# Altium footprint library PCB - POTENTIOMETER - POT BOURNS TRIMPOT 3224J.PCBLIB: 1 footprints
Each footprint in its own frame and in the unit in brackets; x right, y up, seen from the top. Pads: shape width x height; smd on the part's side, far side on the other; paste and mask are expansions set on the pad; w line width, h text height; cw(c..) or ccw(c..) is an arc to the next point about the centre after c.
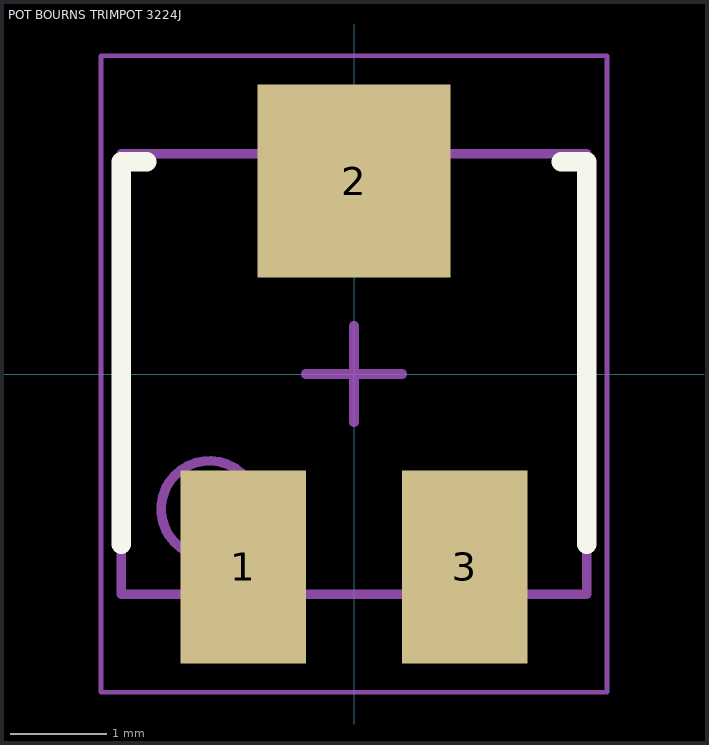
[diagram p0: the footprint, top view; thin cyan lines are the x and y axes]

## POT BOURNS TRIMPOT 3224J [mm] "Bourns Trimpot 3224J - 4mm Sealed SMD Trimpot"
height 3.71
pads (3):
  rect 1.3x2 smd: 1(-1.15,-2) 3(1.15,-2)
  rect 2x2 smd: 2(0,2)
Top Overlay:
  lines w0.2: -2.413,-1.766 -2.413,2.2 -2.15,2.2 ; 2.15,2.2 2.413,2.2 2.413,-1.766
Body Outline:
  circle w0.1: c-1.5,-1.4 r0.5
  lines w0.1: -2.413,-2.286 -2.413,2.286 2.413,2.286 2.413,-2.286 -2.413,-2.286
Courtyard:
  lines w0.05: -2.625,-3.3 -2.625,3.3 2.625,3.3 2.625,-3.3 -2.625,-3.3
  lines w0.1: -0.5,0 0.5,0 ; 0,-0.5 0,0.5
3D body "POT BOURNS TRIMPOT 3224J.STEP": height 3.71, standoff 0, extent -2.413,-2.476 2.413,2.477